# Altium schematic symbol library Capacitors_EFR.SchLib: 12 symbols
Pins are listed as number, name and electrical type; pins without a type are passive.

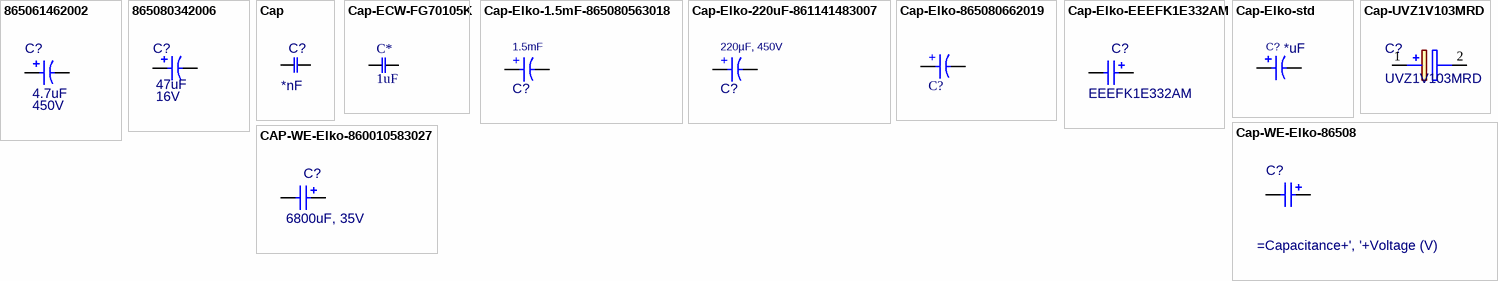
[diagram p0: symbols 865061462002 to CAP-WE-Elko-860010583027]

## 865061462002
designator C?, comment 4.7uF  Rated Voltage (DC): 450V
WCAP-ASLL Aluminum Electrolytic Capacitor, V-Chip, SMT, D12.5 x H14mm, 4.7uF, 450V; Manufacturer Part Number: 865061462002; Manufacturer: Wurth Elektronik; Capacitance Tolerance: +/-20%; Dissipation Factor: 20%; Endurance: 5000h; Leakage Current: 121.15uA; Ripple Current: 50mA; Technical Reference: ASDH1404R7M450DVCTGE000; Category: Aluminum Electrolytic Capacitors; Match Code: WCAP-ASLL; ComponentLink1Description: Website Link; ComponentLink1URL: https://www.we-online.com/redexpert/article/865061462002?ad; ComponentLink2Description: Datasheet Link; ComponentLink2URL: https://www.we-online.com/redexpert/spec/865061462002?ad; Mount: Surface Mount; Operating Temperature Max: 105°C; Operating Temperature Min: -40°C; Packaging: Tape and Reel; Height: 14mm; Diameter: 12.5mm; Capacitance: 4.7uF
simulation model 865061462002_4.7uF
footprint WCAP-ASLL_D12.5H14 (Aluminium Electrolytic V-Chip SMT Capacitors, 12.5x14mm)
pins: 1 P, 2 N
text: +

## 865080342006
designator C?, comment 47uF  Rated Voltage (DC): 16V
WCAP-ASLI Aluminum Electrolytic Capacitor, V-Chip, D5 x H5.5mm, 47uF, 16V; Manufacturer Part Number: 865080342006; Manufacturer: Wurth Elektronik; Capacitance Tolerance: +/-20%; Dissipation Factor: 16%; Endurance: 2000h; Leakage Current: 7.52uA; Ripple Current: 195mA; Technical Reference: ASEC055470M016DVCTBB000; Category: Aluminum Electrolytic Capacitors; Match Code: WCAP-ASLI; ComponentLink1Description: Website Link; ComponentLink1URL: https://www.we-online.com/redexpert/article/865080342006?ad; ComponentLink2Description: Datasheet Link; ComponentLink2URL: https://www.we-online.com/redexpert/spec/865080342006?ad; Mount: Surface Mount; Operating Temperature Max: 105°C; Operating Temperature Min: -55°C; Packaging: Tape and Reel; Height: 5.5mm; Diameter: 5mm; Capacitance: 47uF
simulation model 865080342006_47uF
footprint WCAP-ASLI_D5H5.5 (Aluminium Electrolytic V-Chip SMT Capacitors, 5x5.5mm)
pins: 1 P, 2 N
text: +

## Cap
designator C?, comment Capacitance: *nF  (hidden comment: Capacitor)
General Capacitor; Type: Ceramic; PinNumber: 2; Value: *nF; Manufacturer: *; PartNumber: *; Voltage (V): *; Current (A): *; Tolerance: *; Power (W): *; Resistance: *
footprint 0603(1608)_L (Chip Resistor, 2-Leads, Body 1.60x0.85mm, IPC High Density)
footprint 0603(1608)_N (Chip Resistor, 2-Leads, Body 1.60x0.85mm, IPC Medium Density)
footprint 0603(1608)_M (Chip Resistor, 2-Leads, Body 1.60x0.85mm, IPC Low Density)
footprint 0805(2012)_L (Chip Resistor, 2-Leads, Body 2.00x1.25mm, IPC High Density)
footprint 0805(2012)_N (Chip Resistor, 2-Leads, Body 2.00x1.25mm, IPC Medium Density)
footprint 0805(2012)_M (Chip Resistor, 2-Leads, Body 2.00x1.25mm, IPC Low Density)
footprint 1206(3216)_L (Chip Resistor, Body 3.2x1.6mm, IPC High Density)
footprint 1206(3216)_N (Chip Resistor, Body 3.2x1.6mm, IPC Medium Density)
footprint 1206(3216)_M (Chip Resistor, Body 3.2x1.6mm, IPC Low Density)
footprint Y-Cap
footprint 1812
pins: 1, 2

## Cap-ECW-FG70105K
designator C*, comment 1uF
Film Capacitors 700VDC 1uF 10% ST Lead AEC-Q200; Manufacturer P/N: ECW-FG70105K; Manufacturer: Panasonic; Rated Voltage (DC): 700V (DC); ComponentLink1Description: Datasheet; ComponentLink1URL: https://www.mouser.com/catalog/specsheets/Panasonic_Capacitor%20Film%20Leaded%20(ECW-FG%20Series)%20040120.pdf; Category: Film Capacitor; Capacitance: 1uF; Tolerance: 10%
footprint ECWFG70105K
pins: 1, 2

## Cap-Elko-1.5mF-865080563018
designator C?, comment 1.5mF
WCAP-ASLI Aluminum Electrolytic Capacitor, V-Chip, D16 x H17mm, 1.5mF, 35V; Manufacturer P/N: 865080563018; Manufacturer: Wurth Elektronik; Capacitance Tolerance: +/-20%; Dissipation Factor: 14%; Endurance: 5000h; Leakage Current: 525uA; Ripple Current: 1250mA; Technical Reference: ASEK170152M035DVCTHE000; Category: Aluminum Electrolytic Capacitors; Match Code: WCAP-ASLI; ComponentLink1Description: Website Link; ComponentLink1URL: https://www.we-online.com/redexpert/article/865080563018?ad; ComponentLink2Description: Datasheet Link; ComponentLink2URL: https://www.we-online.com/redexpert/spec/865080563018?ad; Mounting Technology: Surface Mount; Operating Temperature Max: 105°C; Operating Temperature Min: -55°C; Packaging: Tape and Reel; Height: 17mm; Diameter: 16mm; Capacitance: 1.5mF; Rated Voltage (DC): 35V; Supplier 1: Mouser; Supplier Part Number 1: 710-865060562009
footprint WCAP-ASLI_D16H17
simulation model 865080563018_1.5mF
pins: 1 P, 2 N
text: +

## Cap-Elko-220uF-861141483007
designator C?, comment 220µF, 450V
WCAP-AI3H Aluminum Electrolytic Capacitor, Snap-In, D22 x H50mm, 220µF, 450V; Manufacturer P/N: 861141483007; Manufacturer: Wurth Elektronik; Capacitance Tolerance: +/-20%; Dissipation Factor: 20%; Endurance: 3000h; Leakage Current: 943.93µA; Ripple Current: 1000mA; Technical Reference: ANJN500221M450DSIC3C000; Category: Aluminum Electrolytic Capacitors; Match Code: WCAP-AI3H; ComponentLink1Description: Website Link; ComponentLink1URL: https://www.we-online.com/redexpert/article/861141483007?ad; ComponentLink2Description: Datasheet Link; ComponentLink2URL: https://www.we-online.com/redexpert/spec/861141483007?ad; Mounting Technology: THT; Operating Temperature Max: 105°C; Operating Temperature Min: -25°C; Packaging: Tray; Height: 50mm; Diameter: 22mm; Capacitance: 220µF; Rated Voltage (DC): 450V; Supplier 1: Mouser; Supplier Part Number 1: 710-861141483007
footprint WCAP-AI3H_D22H50 (Aluminium Electrolytic Snap-In Capacitors, 22x50mm)
simulation model 861141483007_0.22mF
pins: 1 P, 2 N
text: +

## Cap-Elko-865080662019
designator C?, comment 330uF  (value not drawn)
WCAP-ASLI Aluminum Electrolytic Capacitor, V-Chip, D12.5 x H14mm, 330uF, 50V; Manufacturer Part Number: 865080662019; Manufacturer: Wurth Elektronik; Capacitance Tolerance: +/-20%; Dissipation Factor: 12%; Endurance: 5000h; Leakage Current: 165uA; Ripple Current: 800mA; Technical Reference: ASEH140331M050DVCTGE000; Category: Aluminum Electrolytic Capacitors; Match Code: WCAP-ASLI; ComponentLink1Description: Website Link; ComponentLink1URL: https://www.we-online.com/redexpert/article/865080662019?ad; ComponentLink2Description: Datasheet Link; ComponentLink2URL: https://www.we-online.com/redexpert/spec/865080662019?ad; Mount: Surface Mount; Operating Temperature Max: 105°C; Operating Temperature Min: -55°C; Packaging: Tape and Reel; Height: 14mm; Diameter: 12.5mm; Capacitance: 330uF; Rated Voltage (DC): 50V
simulation model 865080662019_330uF
footprint WCAP-ASLI_D12.5H14 (Aluminium Electrolytic V-Chip SMT Capacitors, 12.5x14mm)
pins: 1 P, 2 N
text: +

## Cap-Elko-EEEFK1E332AM
designator C?, comment EEEFK1E332AM
Aluminum Electrolytic Capacitors (Surface Mount Type), 3300uF, +/-20%, 25VDC; Manufacturer: Panasinic Industry; Endurance: 5000h; Leakage Current: 825µA; Ripple Current max.: 75mA; PinNumber: 2; ComponentLink1Description: Manufacturer; ComponentLink1URL: https://industrial.panasonic.com/ww/products/capacitors/aluminum-capacitors/aluminum-cap-smd/models/EEEFK1E332AM; ComponentLink2Description: Datasheet; ComponentLink2URL: https://industrial.panasonic.com/cdbs/www-data/pdf/RDE0000/ABA0000C1178.pdf; Length: 16.5mm; Mounting Technology: SMT; Operating Temperature: -55 to +105degC; Packaging: Tape and Reel; Diameter: 18mm; PartNumber: EEEFK1E332AM; Capacitance Tolerance: +/-20%; Tolerance: +/-20%; Resistance: *; Current (A): 75mA; Voltage (V): 25VDC; Power (W): *; Rated Voltage: 25VDC; Capacitance: 3300uF
footprint CAP_AE_SMT (Electrolytic V-Chip SMT Capacitors, 19x19mm; EEEFK1E332AM)
pins: 1 N, 2 P

## Cap-Elko-std
designator C?, comment *uF
Capacitance: *; Capacitance (F): *; Deilectric: *; Dielectric Class: *; Height (mm): *; Length (mm): *; Manufacturer P/N: *; Mounting Technology: *; OP. Temperature Max (°C): *; OP. Temperature Min (°C): *; Package: *; Pin Number: *; Rated Voltage (U=[V]): *; Tolerance (%): *; Type1: *; Type2: *; Type3: *; Voltage (V): *; Width (mm): *; ComponentLink1Description: Datasheet; ComponentLink1URL: *
footprint CAPMP7.6X4.3_3.1N_KEM
footprint WCAP-ASLI_D5H5.5 (Aluminium Electrolytic V-Chip SMT Capacitors, 5x5.5mm)
footprint WCAP-ASLI_D12.5H14 (Aluminium Electrolytic V-Chip SMT Capacitors, 12.5x14mm)
footprint MAL215299702E3; pin to pad 1>2 2>1
footprint WCAP-ATG5_D16H31.5 (Aluminum Electrolytic Capacitors, 16x31.5mm)
footprint WCAP-ASLI_D16H17 (Aluminium Electrolytic V-Chip SMT Capacitors, 16x17mm)
footprint CAPAE1900X2200N
footprint WCAP-AIE8_D25H25 (Aluminium Electrolytic Snap-In Capacitors, 25x25mm)
pins: 1 P, 2 N
text: +

## Cap-UVZ1V103MRD
designator C?, comment UVZ1V103MRD
Nichicon 10000uF 35V dc Aluminium Electrolytic Capacitor; Datasheet Link: https://componentsearchengine.com/Datasheets/1/UVZ1V103MRD.pdf; Height: 52mm; Manufacturer: Nichicon; PartNumber: UVZ1V103MRD; ComponentLink1Description: Datasheet; ComponentLink1URL: https://products.nichicon.co.jp/en/pdf/XJA043/e-uvz.pdf
footprint Nichicon-CAP-Elko-Radial-D22L50
pins: 1 +, 2 -

## Cap-WE-Elko-86508
designator C?  (value not drawn)
WCAP-ASLI SMT Aluminum Electrolytic Capacitors, D*mm x L*mm, *uF, +/-*%, *VDC; PartNumber: 86508*; Manufacturer: Wurth Elektronik; Dissipation Factor: 24%; Endurance: 2000h; Leakage Current: 3uA; Ripple Current max.: 75mA; Capacitance Tolerance: +/-20%; Technical Reference: ASEB055220M6R3DVCTAB000; PinNumber: 2; ComponentLink1Description: Manufacturer; ComponentLink1URL: http://www.we-online.de; ComponentLink2Description: Datasheet; ComponentLink2URL: https://katalog.we-online.com/pbs/datasheet/865080140001.pdf; Length: *mm; Mounting Technology: SMT; Operating Temperature: -55 to +105degC; Packaging: Tape and Reel; Published Date: August 2019; Diameter: *mm; Tolerance: +/-20%; Resistance: *; Current (A): 75mA; Voltage (V): *VDC; Power (W): *; Rated Voltage: *VDC; Capacitance: *uF; Value: =Capacitance+', '+Voltage (V)
footprint CAP-WE-WCAP-ASLI_10x10.5 (Aluminium Electrolytic V-Chip SMT Capacitors, 10x10.5mm)
footprint CAP-WE-WCAP-ASLI_16x17 (Aluminium Electrolytic V-Chip SMT Capacitors, 16x17mm)
footprint CAP-WE-WCAP-ASLI_4x5.5 (Aluminium Electrolytic V-Chip SMT Capacitors, 4x5.5mm)
footprint CAP-WE-WCAP-ASLI_5x5.5 (Aluminium Electrolytic V-Chip SMT Capacitors, 5x5.5mm)
footprint CAP-WE-WCAP-ASLI_6.3x5.5 (Aluminium Electrolytic V-Chip SMT Capacitors, 6.3x5.5mm)
footprint CAP-WE-WCAP-ASLI_6.3x5.5 (Aluminium Electrolytic V-Chip SMT Capacitors, 6.3x5.5mm)
footprint CAP-WE-WCAP-ASLI_6.3x7.7 (Aluminium Electrolytic V-Chip SMT Capacitors, 6.3x7.7mm)
footprint CAP-WE-WCAP-ASLI_8x10.5 (Aluminium Electrolytic V-Chip SMT Capacitors, 8x10.5mm)
footprint CAP-WE-WCAP-ASLI_8x6.5 (Aluminium Electrolytic V-Chip SMT Capacitors, 8x6.5mm)
footprint CAP-WE-WCAP-ASLI_12.5x14 (Aluminium Electrolytic V-Chip SMT Capacitors, 12.5x14mm)
footprint WCAP-ASLI_D16H17 (Aluminium Electrolytic V-Chip SMT Capacitors, 16x17mm)
pins: 1 N, 2 P

## CAP-WE-Elko-860010583027
designator C?, comment 6800uF, 35V
WCAP-ATG8 Aluminum Electrolytic Capacitor, Radial, THT, D22xH41mm, 6800uF, 35V; PartNumber: 860010583027; Manufacturer: Wurth Elektronik; Dissipation Factor: 12%; Endurance: 2000h; Leakage Current: 2380uA; Ripple Current: 3630mA; Capacitance Tolerance: +/-20%; Rated Voltage: 35VDC; Technical Reference: ATBN410682M035DSPS2B000; ComponentLink1Description: Manufacturer; ComponentLink1URL: http://www.we-online.de; ComponentLink2Description: Datasheet; ComponentLink2URL: https://www.we-online.com/catalog/datasheet/860010583027.pdf; Height: 41mm; Mounting Technology: THT; Operating Temperature: -40 to +85degC; Packaging: Ammo Pack; Published Date: May 2020; Capacitance: 6800uF; Diameter: 22mm
footprint CAP-WE-WCAP-ATG8_22x41 (Aluminum Electrolytic Capacitors, 22x41mm)
footprint WCAP-AI3H_D22H50 (Aluminium Electrolytic Snap-In Capacitors, 22x50mm)
pins: 1 N, 2 P